# Altium footprint library MQ135.PcbLib: 1 footprints
Each footprint in its own frame and in the unit in brackets; x right, y up, seen from the top. Pads: shape width x height; smd on the part's side, far side on the other; paste and mask are expansions set on the pad; w line width, h text height; cw(c..) or ccw(c..) is an arc to the next point about the centre after c.
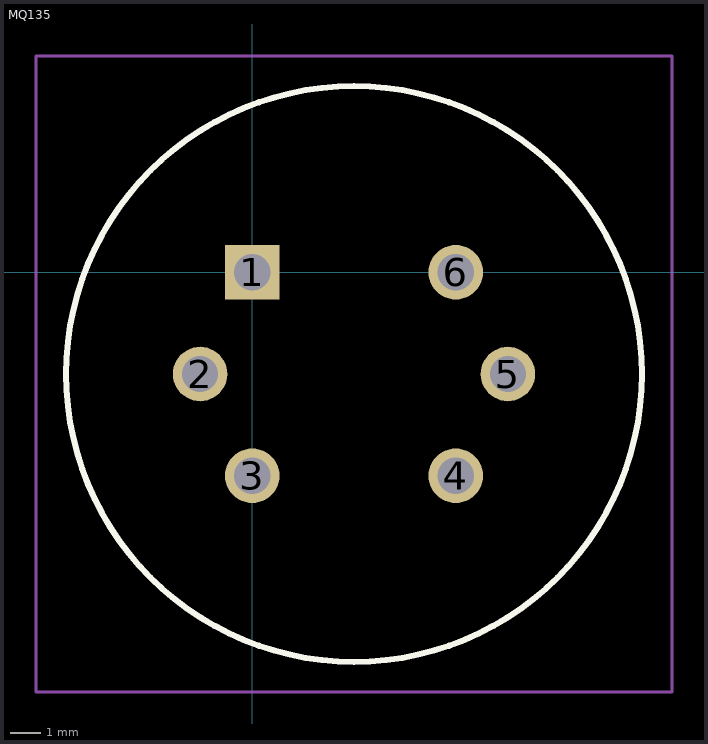
[diagram p0: the footprint, top view; thin cyan lines are the x and y axes]

## MQ135 [mm]
pads (6):
  rect 1.8x1.8 hole 1.2: 1(0,0)
  round 1.8 hole 1.2: 2(-1.721,-3.359) 3(0,-6.718) 4(6.718,-6.718) 5(8.439,-3.359) 6(6.718,0)
Top Overlay:
  lines w0.2: -6.141,-3.359 -6.141,-3.359 ; -6.141,-3.359 ccw(c3.359,-3.359) 12.859,-3.359 ; -6.141,-3.359 cw(c3.359,-3.359) 12.859,-3.359 ; 12.859,-3.359 12.859,-3.359
Mechanical 15:
  lines w0.1: -6.141,-3.359 -6.141,-3.359 ; -6.141,-3.359 ccw(c3.359,-3.359) 12.859,-3.359 ; -6.141,-3.359 cw(c3.359,-3.359) 12.859,-3.359 ; 12.859,-3.359 12.859,-3.359
Mechanical 20:
  lines w0.1: -7.141,-13.859 13.859,-13.859 13.859,7.141 -7.141,7.141 -7.141,-13.859